# EAGLE library part ESP8266-WITH-ADAPTER (library esp8266_with_adapter)
ESP8266 Adapter for ESP8266-03, ESP8266-04, ESP8266-07, ESP8266-08, ESP8266-12 and similar. (c) by Bartosz Batorek obi--wan@wp.pl
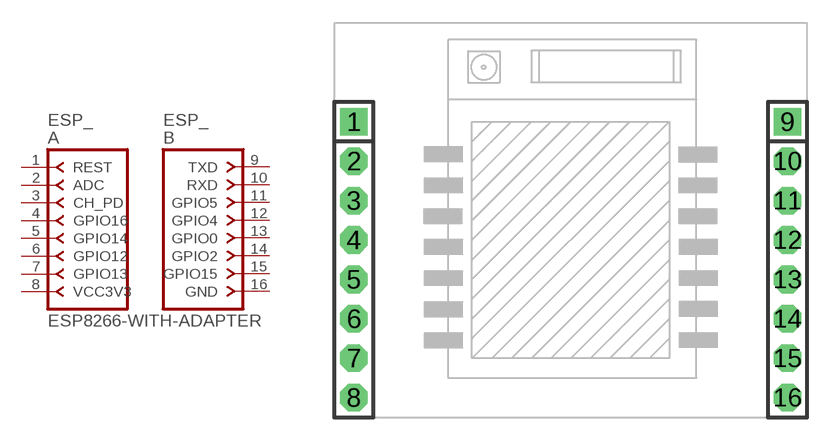
[diagram p0: symbol with the pads of ESP8266-ADAPTER; footprint ESP8266-ADAPTER]

Designator prefix ESP_

## ESP8266-WITH-ADAPTER  [ESP8266-ADAPTER]
1  REST  pas
2  ADC  pas
3  CH_PD  pas
4  GPIO16  pas
5  GPIO14  pas
6  GPIO12  pas
7  GPIO13  pas
8  VCC3V3  pas
9  TXD  pas
10  RXD  pas
11  GPIO5  pas
12  GPIO4  pas
13  GPIO0  pas
14  GPIO2  pas
15  GPIO15  pas
16  GND  pas

## Footprint ESP8266-ADAPTER (pad centres in mm)
ESP8266 Adapter SIP Header - 0.1", 32 mil drill for ESP8266-03, ESP8266-04, ESP8266-07, ESP8266-08, ESP8266-12 and similar. (c) by Bartosz Batorek obi--wan@wp.pl
drill 0.813 pad 1.778 square: 1 -13.97,8.89; 9 13.97,8.89
drill 0.813 pad 1.778 octagon: 2 -13.97,6.35; 3 -13.97,3.81; 4 -13.97,1.27; 5 -13.97,-1.27; 6 -13.97,-3.81; 7 -13.97,-6.35; 8 -13.97,-8.89; 10 13.97,6.35; 11 13.97,3.81; 12 13.97,1.27; 13 13.97,-1.27; 14 13.97,-3.81; 15 13.97,-6.35; 16 13.97,-8.89